# Altium footprint library PowerDist1.PcbLib: 29 footprints (part 2 of 2)
Each footprint in its own frame and in the unit in brackets; x right, y up, seen from the top. Pads: shape width x height; smd on the part's side, far side on the other; paste and mask are expansions set on the pad; w line width, h text height; cw(c..) or ccw(c..) is an arc to the next point about the centre after c.
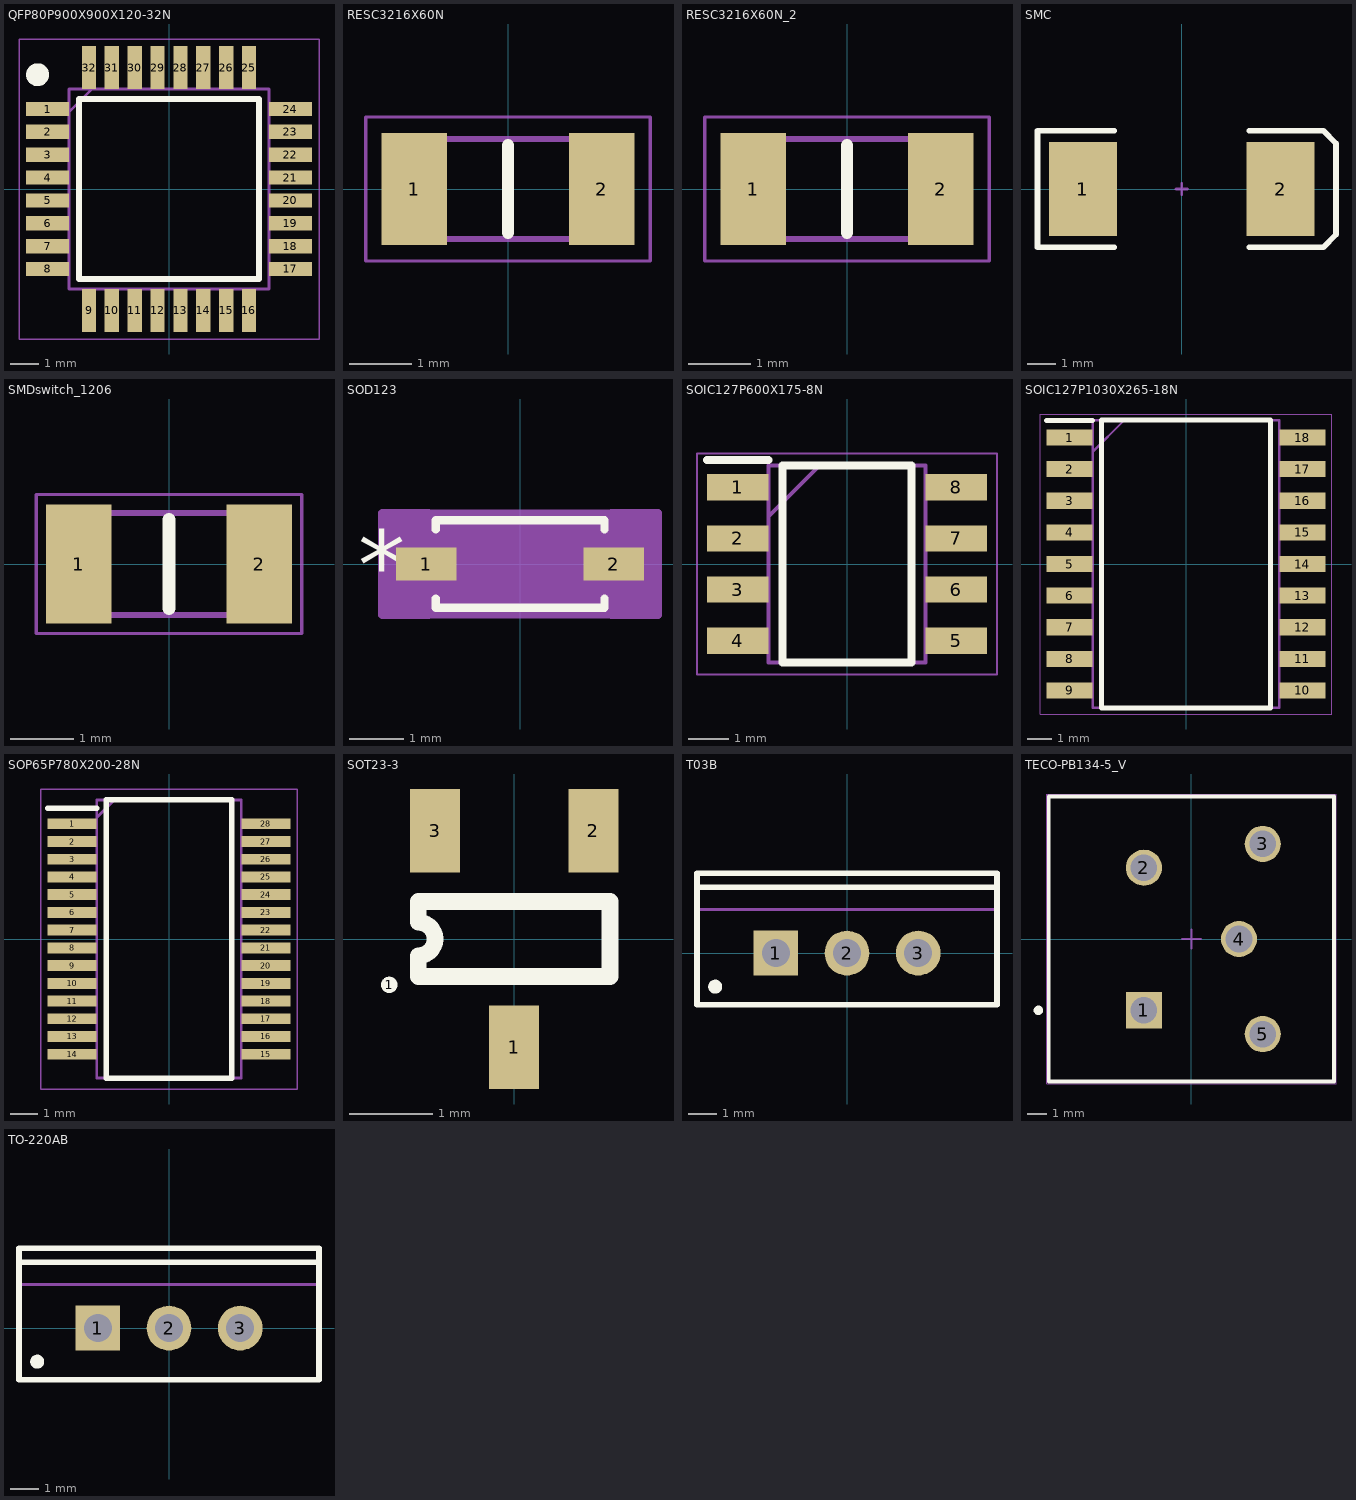
[diagram p1: the footprints below, top view; thin cyan lines are the x and y axes]

## QFP80P900X900X120-32N [mm]
pads (32):
  rect 1.5x0.5 smd: 1(-4.25,2.8) 2(-4.25,2) 3(-4.25,1.2) 4(-4.25,0.4) 5(-4.25,-0.4) 6(-4.25,-1.2) 7(-4.25,-2) 8(-4.25,-2.8) 17(4.25,-2.8) 18(4.25,-2) 19(4.25,-1.2) 20(4.25,-0.4) 21(4.25,0.4) 22(4.25,1.2) 23(4.25,2) 24(4.25,2.8)
  rect 0.5x1.5 smd: 9(-2.8,-4.25) 10(-2,-4.25) 11(-1.2,-4.25) 12(-0.4,-4.25) 13(0.4,-4.25) 14(1.2,-4.25) 15(2,-4.25) 16(2.8,-4.25) 25(2.8,4.25) 26(2,4.25) 27(1.2,4.25) 28(0.4,4.25) 29(-0.4,4.25) 30(-1.2,4.25) 31(-2,4.25) 32(-2.8,4.25)
Top Overlay:
  circle w0.4: c-4.6,4 r0.2
  lines w0.2: -3.15,-3.15 -3.15,3.15 3.15,3.15 3.15,-3.15 -3.15,-3.15
Mechanical 15:
  lines w0.1: -3.5,2.7 -2.7,3.5 ; -3.5,-3.5 -3.5,3.5 3.5,3.5 3.5,-3.5 -3.5,-3.5
Mechanical 16:
  lines w0.05: -5.25,-5.25 -5.25,5.25 5.25,5.25 5.25,-5.25 -5.25,-5.25
3D body "ATMEGA328P-AU.stp": height 1.2, standoff 0, extent -4.5,-4.5 4.5,4.5
3D body: height 0.25, standoff 0, extent -0.254,-0.381 0.127,0

## RESC3216X60N [mm]
pads (2):
  rect 1.05x1.8 smd: 1(-1.5,0) 2(1.5,0)
Top Overlay:
  lines w0.2: 0,-0.7 0,0.7
Mechanical 15:
  lines w0.1: -1.575,-0.8 1.575,-0.8 1.575,0.8 -1.575,0.8 -1.575,-0.8
Mechanical 16:
  lines w0.05: -2.275,-1.15 2.275,-1.15 2.275,1.15 -2.275,1.15 -2.275,-1.15
3D body: height 1.2, standoff 0, extent 0,-0.025 0,-0.025
3D body "CRCW12063K30FKEAC.stp": height 0.6, standoff 0, extent -1.575,-0.825 1.575,0.775

## RESC3216X60N_2 [mm]
pads (2):
  rect 1.05x1.8 smd: 1(-1.5,0) 2(1.5,0)
Top Overlay:
  lines w0.2: 0,-0.7 0,0.7
Mechanical 15:
  lines w0.1: -1.575,-0.8 1.575,-0.8 1.575,0.8 -1.575,0.8 -1.575,-0.8
Mechanical 16:
  lines w0.05: -2.275,-1.15 2.275,-1.15 2.275,1.15 -2.275,1.15 -2.275,-1.15
3D body: height 1.2, standoff 0, extent 0,-0.025 0,-0.025
3D body "CRCW12063K30FKEAC.stp": height 0.6, standoff 0, extent -1.575,-0.825 1.575,0.775

## SMC [mm]
pads (2):
  rect 2.4x3.3 smd: 1(-3.475,0) 2(3.475,0)
Top Overlay:
  lines w0.2: -2.375,-2.05 -5.075,-2.05 -5.075,2.05 -2.375,2.05 ; 2.375,-2.05 4.975,-2.05 5.425,-1.6 5.425,1.6 4.975,2.055 ; 2.375,2.05 4.975,2.05
Mechanical 1:
  lines w0.1: -0.2,0 0.2,0 ; 0,-0.2 0,0.2

## SMDswitch_1206 [mm]
pads (2):
  rect 1.03x1.87 smd: 1(-1.42,0) 2(1.42,0)
Top Overlay:
  lines w0.2: 0,-0.7 0,0.7
Mechanical 15:
  lines w0.1: -1.6,-0.8 1.6,-0.8 1.6,0.8 -1.6,0.8 -1.6,-0.8
Mechanical 16:
  lines w0.05: -2.085,-1.09 2.085,-1.09 2.085,1.09 -2.085,1.09 -2.085,-1.09
3D body "tact_switch_K2-1808SN-A4SW.STEP": height 0.46, standoff -0.02, extent -1.53,-0.812 1.53,0.813

## SOD123 [mm]
pads (2):
  rect 1.111x0.601 smd paste+0 mask+0: 1(-1.725,0) 2(1.725,0)
Top Overlay:
  lines w0.152: -1.552,-0.633 -1.552,-0.802 1.552,-0.802 1.552,-0.633 ; -1.552,0.633 -1.552,0.802 1.552,0.802 1.552,0.633
  text "*" at -2.979,-0.635 h1.27
Mechanical 13:
  lines w0.025: -1.425,-0.337 -1.087,-0.675 ; -1.425,0.337 -1.087,0.675 ; -1.925,-0.275 -1.425,-0.275 -1.425,0.275 -1.925,0.275 -1.925,-0.275 ; -1.425,-0.675 -1.425,0.675 1.425,0.675 1.425,-0.675 -1.425,-0.675 ; 1.425,-0.275 1.925,-0.275 1.925,0.275 1.425,0.275 1.425,-0.275
  text "*" at -1.488,-0.635 h1.27
Mechanical 15:
  region: -1.679,-0.937 -2.535,-0.937 -2.535,0.937 -1.679,0.937 -1.679,0.929 1.679,0.929 1.679,0.937 2.535,0.937 2.535,-0.937 1.679,-0.937 1.679,-0.929 -1.679,-0.929
  lines w0.152: -2.535,-0.937 -1.679,-0.937 -1.679,-0.929 1.679,-0.929 1.679,-0.937 2.535,-0.937 2.535,0.937 1.679,0.937 1.679,0.929 -1.679,0.929 -1.679,0.937 -2.535,0.937 -2.535,-0.937
3D body: height 0.25, standoff 0, extent -0.381,-0.381 -0.381,-0.381
3D body "SOD123.stp": height 0.81, standoff 0, extent -1.925,-0.675 1.925,0.675
3D body: height 0.25, standoff 0, extent -0.635,0 -0.635,0
3D body: height 0.25, standoff 0, extent 0,0 0.254,0.254

## SOIC127P600X175-8N [mm]
pads (8):
  rect 1.525x0.65 smd: 1(-2.712,1.905) 2(-2.712,0.635) 3(-2.712,-0.635) 4(-2.712,-1.905) 5(2.712,-1.905) 6(2.712,-0.635) 7(2.712,0.635) 8(2.712,1.905)
Top Overlay:
  lines w0.2: -3.475,2.58 -1.95,2.58 ; -1.6,-2.45 -1.6,2.45 1.6,2.45 1.6,-2.45 -1.6,-2.45
Mechanical 15:
  lines w0.1: -1.95,1.18 -0.68,2.45 ; -1.95,-2.45 -1.95,2.45 1.95,2.45 1.95,-2.45 -1.95,-2.45
Mechanical 16:
  lines w0.05: -3.725,-2.75 -3.725,2.75 3.725,2.75 3.725,-2.75 -3.725,-2.75
3D body "SN65HVD1050D.stp": height 1.75, standoff 0, extent -3,-2.45 3,2.45

## SOIC127P1030X265-18N [mm]
pads (18):
  rect 1.85x0.65 smd: 1(-4.675,5.08) 2(-4.675,3.81) 3(-4.675,2.54) 4(-4.675,1.27) 5(-4.675,0) 6(-4.675,-1.27) 7(-4.675,-2.54) 8(-4.675,-3.81) 9(-4.675,-5.08) 10(4.675,-5.08) 11(4.675,-3.81) 12(4.675,-2.54) 13(4.675,-1.27) 14(4.675,0) 15(4.675,1.27) 16(4.675,2.54) 17(4.675,3.81) 18(4.675,5.08)
Top Overlay:
  lines w0.2: -5.6,5.755 -3.75,5.755 ; -3.4,-5.775 3.4,-5.775 3.4,5.775 -3.4,5.775 -3.4,-5.775
Mechanical 15:
  lines w0.1: -3.75,4.505 -2.48,5.775 ; -3.75,-5.775 3.75,-5.775 3.75,5.775 -3.75,5.775 -3.75,-5.775
Mechanical 16:
  lines w0.05: -5.85,-6.025 5.85,-6.025 5.85,6.025 -5.85,6.025 -5.85,-6.025
3D body "MCP2515-E_SO.stp": height 2.65, standoff 0, extent -5.15,-5.775 5.15,5.775

## SOP65P780X200-28N [mm]
pads (28):
  rect 1.8x0.4 smd: 1(-3.55,4.225) 2(-3.55,3.575) 3(-3.55,2.925) 4(-3.55,2.275) 5(-3.55,1.625) 6(-3.55,0.975) 7(-3.55,0.325) 8(-3.55,-0.325) 9(-3.55,-0.975) 10(-3.55,-1.625) 11(-3.55,-2.275) 12(-3.55,-2.925) 13(-3.55,-3.575) 14(-3.55,-4.225) 15(3.55,-4.225) 16(3.55,-3.575) 17(3.55,-2.925) 18(3.55,-2.275) 19(3.55,-1.625) 20(3.55,-0.975) 21(3.55,-0.325) 22(3.55,0.325) 23(3.55,0.975) 24(3.55,1.625) 25(3.55,2.275) 26(3.55,2.925) 27(3.55,3.575) 28(3.55,4.225)
Top Overlay:
  lines w0.2: -4.45,4.8 -2.65,4.8 ; -2.3,-5.1 -2.3,5.1 2.3,5.1 2.3,-5.1 -2.3,-5.1
Mechanical 15:
  lines w0.1: -2.65,4.45 -2,5.1 ; -2.65,-5.1 -2.65,5.1 2.65,5.1 2.65,-5.1 -2.65,-5.1
Mechanical 16:
  lines w0.05: -4.7,-5.5 -4.7,5.5 4.7,5.5 4.7,-5.5 -4.7,-5.5
3D body "FT232RL-REEL.stp": height 2, standoff 0, extent -3.9,-5.1 3.9,5.1

## SOT23-3 [mm]
pads (4):
  round 0.2 on Top Overlay: 1(-1.5,-0.55)
  rect 0.6x1 smd: 1(0,-1.3) 2(0.95,1.3) 3(-0.95,1.3)
Top Overlay:
  lines w0.2: -1.15,-0.45 -1.15,-0.2 ccw(c-1.15,0) -1.15,0.2 -1.15,0.45 1.15,0.45 1.15,-0.45 -1.15,-0.45
3D body "SOT23-3.step": height 1.3, standoff 0, extent -1.45,-1.4 1.45,1.4

## T03B [mm]
pads (3):
  rect 1.6x1.6 hole 1: 1(-2.54,0)
  round 1.6 hole 1: 2(0,0) 3(2.54,0)
Top Overlay:
  circle w0.25: c-4.7,-1.2 r0.125
  lines w0.2: -5.35,2.35 5.35,2.35 ; -5.35,-1.85 -5.35,2.85 5.35,2.85 5.35,-1.85 -5.35,-1.85
Mechanical 13:
  lines w0.1: -5.35,1.55 5.35,1.55 ; -5.35,-1.85 5.35,-1.85 5.35,2.85 -5.35,2.85 -5.35,-1.85
Mechanical 15:
  lines w0.1: -0.5,0 0.5,0 ; 0,-0.5 0,0.5
3D body: height 12.9, standoff 4, extent -5.4,-1.9 5.4,2.9
3D body: height 19.4, standoff 12.9, extent -5.349,1.551 5.349,2.849

## TECO-PB134-5_V [mm]
pads (5):
  rect 1.9x1.9 hole 1.4: 1(-2.5,-3.75)
  round 1.9 hole 1.4: 2(-2.5,3.75) 3(3.75,5) 4(2.5,0) 5(3.75,-5)
Top Overlay:
  circle w0.25: c-8.05,-3.75 r0.125
  lines w0.2: -7.5,-7.5 -7.5,7.5 7.5,7.5 7.5,-7.5 -7.5,-7.5
Mechanical 13:
  lines w0.1: -7.5,-7.5 -7.5,7.5 7.5,7.5 7.5,-7.5 -7.5,-7.5
Mechanical 15:
  lines w0.05: -7.6,-7.6 -7.6,7.6 7.6,7.6 7.6,-7.6 -7.6,-7.6
  lines w0.1: -0.5,0 0.5,0 ; 0,-0.5 0,0.5
3D body: height 0.5, standoff -3.7, extent 3.35,4.6 4.15,5.4
3D body: height 0.5, standoff -3.7, extent 2.1,-0.4 2.9,0.4
3D body: height 0.5, standoff -3.7, extent 3.35,-5.4 4.15,-4.6
3D body: height 0.5, standoff -3.7, extent -2.9,-4.15 -2.1,-3.35
3D body: height 0.5, standoff -3.7, extent -2.9,3.35 -2.1,4.15
3D body: height 0.5, standoff 0, extent -7.5,-7.5 -7,-7
3D body: height 0.5, standoff 0, extent 7,-7.5 7.5,-7
3D body: height 0.5, standoff 0, extent -7.5,7 -7,7.5
3D body: height 0.5, standoff 0, extent 7,7 7.5,7.5
3D body: height 20, standoff 0.5, extent -7.5,-7.5 7.5,7.5

## TO-220AB [mm]
pads (3):
  rect 1.6x1.6 hole 1: 1(-2.54,0)
  round 1.6 hole 1: 2(0,0) 3(2.54,0)
Top Overlay:
  circle w0.25: c-4.7,-1.2 r0.125
  lines w0.2: -5.35,2.35 5.35,2.35 ; -5.35,-1.85 -5.35,2.85 5.35,2.85 5.35,-1.85 -5.35,-1.85
Mechanical 13:
  lines w0.1: -5.35,1.55 5.35,1.55 ; -5.35,-1.85 5.35,-1.85 5.35,2.85 -5.35,2.85 -5.35,-1.85
Mechanical 15:
  lines w0.1: -0.5,0 0.5,0 ; 0,-0.5 0,0.5
3D body: height 12.9, standoff 4, extent -5.4,-1.9 5.4,2.9
3D body: height 19.3, standoff 12.9, extent -5.349,1.551 5.349,2.849